# Altium footprint library L78L05ACZ.PcbLib: 1 footprints
Each footprint in its own frame and in the unit in brackets; x right, y up, seen from the top. Pads: shape width x height; smd on the part's side, far side on the other; paste and mask are expansions set on the pad; w line width, h text height; cw(c..) or ccw(c..) is an arc to the next point about the centre after c.
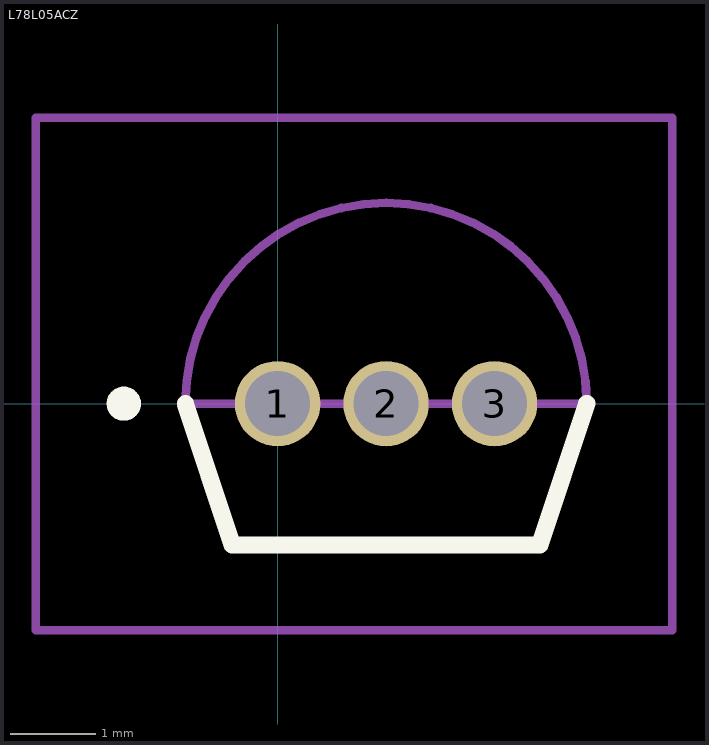
[diagram p0: the footprint, top view; thin cyan lines are the x and y axes]

## L78L05ACZ [mm]
pads (3):
  round 1 hole 0.76: 1(0,0) 2(1.27,0) 3(2.54,0)
Top Overlay:
  lines w0.2: -1.08,0 -0.53,-1.655 3.07,-1.655 3.62,0 ; -1.9,0 cw(c-1.8,0) -1.7,0 ; -1.9,0 -1.9,0 ; -1.9,0 ccw(c-1.8,0) -1.7,0 ; -1.7,0 -1.7,0
Mechanical 15:
  lines w0.1: -1.08,0 3.62,0 ; -1.08,0 cw(c1.27,0) 3.62,0 ; -1.08,0 -0.53,-1.655 3.07,-1.655 3.62,0 ; 3.62,0 3.62,0
Mechanical 20:
  lines w0.1: -2.83,-2.655 4.62,-2.655 4.62,3.35 -2.83,3.35 -2.83,-2.655